# EAGLE library part EXB-28V221JX (library RC0603FR-072K2L)
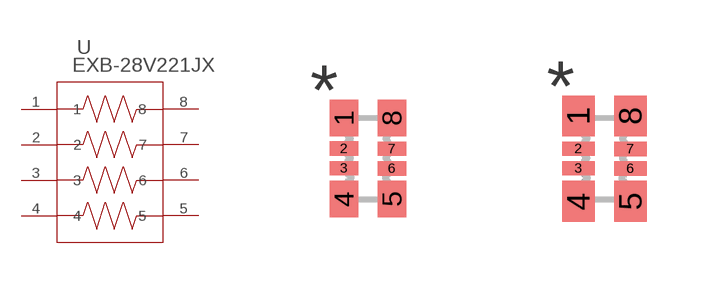
[diagram p0: symbol with the pads of C_ARRAY_EXB28V; footprints C_ARRAY_EXB28V, C_ARRAY_EXB28V-M]

Designator prefix U

## EXB-28V221JX (MANUFACTURER_PART_NUMBER: EXB28V221JX; VENDOR: Panasonic)  [C_ARRAY_EXB28V]
1  1  pas
2  2  pas
3  3  pas
4  4  pas
5  5  pas
6  6  pas
7  7  pas
8  8  pas

## EXB-28V221JXC_ARRAY_EXB28V-M (MANUFACTURER_PART_NUMBER: EXB28V221JX; VENDOR: Panasonic)  [C_ARRAY_EXB28V-M]
Pads as for C_ARRAY_EXB28V

## EXB-28V221JXC_ARRAY_EXB28V-L (MANUFACTURER_PART_NUMBER: EXB28V221JX; VENDOR: Panasonic)  [C_ARRAY_EXB28V-L]
Pads as for C_ARRAY_EXB28V

## Footprint C_ARRAY_EXB28V (pad centres in mm)
smd 0.707 x 0.914: 1 -0.599,1.016; 4 -0.599,-1.016; 5 0.599,-1.016; 8 0.599,1.016
smd 0.707 x 0.356: 2 -0.599,0.248; 3 -0.599,-0.241; 6 0.599,-0.248; 7 0.599,0.241

## Footprint C_ARRAY_EXB28V-M (pad centres in mm)
smd 0.809 x 1.016: 1 -0.65,1.067; 4 -0.65,-1.067; 5 0.65,-1.067; 8 0.65,1.067
smd 0.809 x 0.356: 2 -0.65,0.248; 3 -0.65,-0.241; 6 0.65,-0.248; 7 0.65,0.241

## Footprint C_ARRAY_EXB28V-L (pad centres in mm)
smd 0.606 x 0.813: 1 -0.548,0.965; 4 -0.548,-0.965; 5 0.548,-0.965; 8 0.548,0.965
smd 0.606 x 0.356: 2 -0.548,0.248; 3 -0.548,-0.241; 6 0.548,-0.248; 7 0.548,0.241